# Altium footprint library pcblib1.pcblib: 9 footprints
Each footprint in its own frame and in the unit in brackets; x right, y up, seen from the top. Pads: shape width x height; smd on the part's side, far side on the other; paste and mask are expansions set on the pad; w line width, h text height; cw(c..) or ccw(c..) is an arc to the next point about the centre after c.
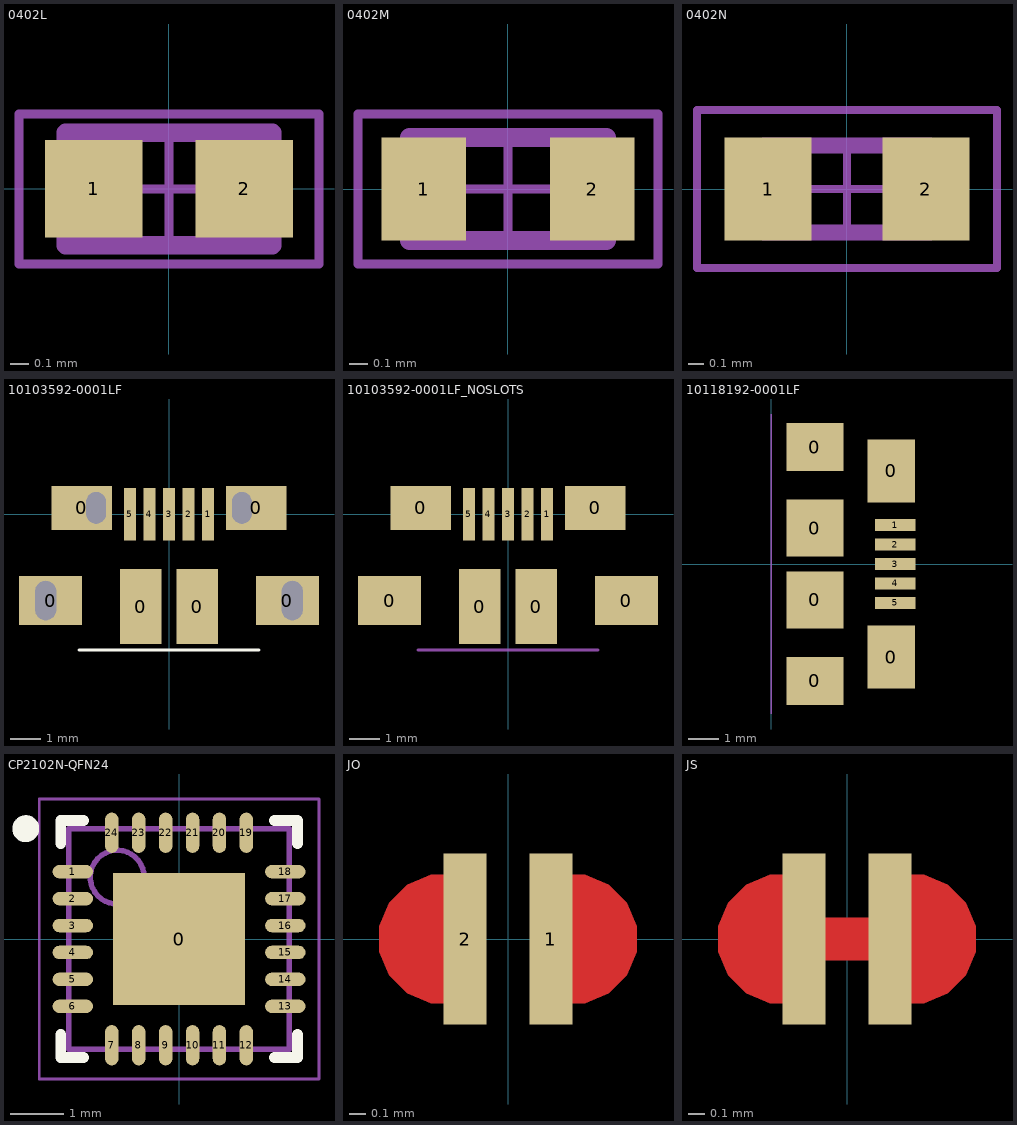
[diagram p0: the footprints below, top view; thin cyan lines are the x and y axes]

## 0402L [mm] "0402L"
height 0.6
pads (2):
  rect 0.52x0.52 smd: 1(-0.4,0) 2(0.4,0)
Mechanical 13:
  lines w0.1: -0.55,-0.3 -0.55,0.3 0.55,0.3 0.55,-0.3 -0.55,-0.3
Mechanical 15:
  lines w0.05: -0.3,0 0.3,0 ; 0,-0.3 0,0.3 ; -0.8,-0.4 -0.8,0.4 0.8,0.4 0.8,-0.4 -0.8,-0.4
3D body: height 0.6, standoff 0, extent -0.3,-0.3 0.3,0.3
3D body: height 0.6, standoff 0, extent -0.55,-0.3 -0.3,0.3
3D body: height 0.6, standoff 0, extent 0.3,-0.3 0.55,0.3

## 0402M [mm] "0402M"
height 0.4
pads (2):
  rect 0.45x0.55 smd: 1(-0.45,0) 2(0.45,0)
Mechanical 13:
  lines w0.1: -0.525,-0.275 0.525,-0.275 0.525,0.275 -0.525,0.275 -0.525,-0.275
Mechanical 15:
  lines w0.05: -0.275,0 0.275,0 ; 0,-0.275 0,0.275 ; -0.8,-0.4 0.8,-0.4 0.8,0.4 -0.8,0.4 -0.8,-0.4
3D body: height 0.4, standoff 0, extent 0.3,-0.275 0.525,0.275
3D body: height 0.4, standoff 0, extent -0.3,-0.275 0.3,0.275
3D body: height 0.4, standoff 0, extent -0.525,-0.275 -0.3,0.275

## 0402N [mm] "0402N"
height 0.4
pads (2):
  rect 0.55x0.65 smd: 1(-0.5,0) 2(0.5,0)
Mechanical 13:
  lines w0.1: -0.525,-0.275 -0.525,0.275 0.525,0.275 0.525,-0.275 -0.525,-0.275
Mechanical 15:
  lines w0.05: -0.275,0 0.275,0 ; 0,-0.275 0,0.275 ; -0.95,-0.5 -0.95,0.5 0.95,0.5 0.95,-0.5 -0.95,-0.5
3D body: height 0.4, standoff 0, extent 0.3,-0.275 0.525,0.275
3D body: height 0.4, standoff 0, extent -0.3,-0.275 0.3,0.275
3D body: height 0.4, standoff 0, extent -0.525,-0.275 -0.3,0.275

## 10103592-0001LF [mm] "micro B USB 2.0 Receptacle Connector 5 Position Surface Mount, Right Angle, Horizontal Rev"
height 3
pads (15):
  round 0 hole 0.7 slot 1.3 at 90 deg: 0(-4.1,-2.875) 0(4.1,-2.875)
  rect 2.1x1.625 smd: 0(-3.938,-2.875) 0(3.938,-2.875)
  rect 2x1.46 smd: 0(-2.9,0.205) 0(2.9,0.205)
  round 0 hole 0.65 slot 1.05 at 90 deg: 0(-2.425,0.205) 0(2.425,0.205)
  rect 1.375x2.5 smd: 0(-0.937,-3.075) 0(0.937,-3.075)
  rect 0.4x1.75 smd: 1(1.3,0) 2(0.65,0) 3(0,0) 4(-0.65,0) 5(-1.3,0)
Top Overlay:
  lines w0.1: -3,-4.525 3,-4.525

## 10103592-0001LF_NOSLOTS [mm] "micro B USB 2.0 Receptacle Connector 5 Position Surface Mount, Right Angle, Horizontal Rev"
height 3
pads (11):
  rect 2.1x1.625 smd: 0(-3.938,-2.875) 0(3.938,-2.875)
  rect 2x1.46 smd: 0(-2.9,0.205) 0(2.9,0.205)
  rect 1.375x2.5 smd: 0(-0.937,-3.075) 0(0.937,-3.075)
  rect 0.4x1.75 smd: 1(1.3,0) 2(0.65,0) 3(0,0) 4(-0.65,0) 5(-1.3,0)
Mechanical 1:
  lines w0.1: -3,-4.525 3,-4.525
  lines w0.127: -4.1,-2.525 -4.1,-2.275 -4.1,-2.875 ; -3.8,-2.875 -4.45,-2.875 -4.1,-2.875 ; -2.695,0.205 -2.425,0.205 ; -2.425,-0.05 -2.425,0.205 ; -2.425,0.65 -2.425,0.205 ; -2.15,0.2 -2.42,0.2 -2.425,0.205 ; 2.15,0.21 2.42,0.21 ; 2.42,-0.045 2.42,0.21 ; 2.42,0.655 2.42,0.21 ; 2.695,0.205 2.425,0.205 2.42,0.21 ; 4.1,-2.525 4.1,-2.275 4.1,-2.875 ; 4.4,-2.875 3.75,-2.875 4.1,-2.875 ; -4.1,-2.875 -4.1,-3.5 -4.1,-2.875 ; -2.425,0.205 -2.425,-0.275 -2.425,0.205 ; 2.42,0.21 2.42,-0.27 2.42,0.21 ; 4.1,-2.875 4.1,-3.5 4.1,-2.875

## 10118192-0001LF [mm] "MICRO USB B RA RECP"
height 1.8
pads (11):
  rect 1.9x1.6 smd: 0(1.45,-3.9) 0(1.45,3.9)
  rect 1.9x1.9 smd: 0(1.45,-1.2) 0(1.45,1.2)
  rect 1.6x2.1 smd: 0(4,-3.1) 0(4,3.1)
  rect 1.35x0.4 smd: 1(4.125,1.3) 2(4.125,0.65) 3(4.125,0) 4(4.125,-0.65) 5(4.125,-1.3)
Mechanical 1:
  lines w0.05: 0,-5 0,5
3D body "10118192C.stp": height 3.09, standoff 0.08, extent -1.016,-3.956 4.645,3.956

## CP2102N-QFN24 [mm] "QFN, 24-Leads, Body 4.00x4.00mm, Pitch 0.50mm, Thermal Pad 2.45x2.45mm, IPC Medium Density"
height 0.8
pads (25):
  rect 2.45x2.45 smd: 0(0,0)
  oval 0.75x0.25 smd: 1(-1.975,1.25) 2(-1.975,0.75) 3(-1.975,0.25) 4(-1.975,-0.25) 5(-1.975,-0.75) 6(-1.975,-1.25) 13(1.975,-1.25) 14(1.975,-0.75) 15(1.975,-0.25) 16(1.975,0.25) 17(1.975,0.75) 18(1.975,1.25)
  oval 0.25x0.75 smd: 7(-1.25,-1.975) 8(-0.75,-1.975) 9(-0.25,-1.975) 10(0.25,-1.975) 11(0.75,-1.975) 12(1.25,-1.975) 19(1.25,1.975) 20(0.75,1.975) 21(0.25,1.975) 22(-0.25,1.975) 23(-0.75,1.975) 24(-1.25,1.975)
Top Overlay:
  circle w0.25: c-2.85,2.05 r0.125
  lines w0.2: -2.2,-1.775 -2.2,-2.2 -1.775,-2.2 ; -2.2,1.775 -2.2,2.2 -1.775,2.2 ; 1.775,-2.2 2.2,-2.2 2.2,-1.775 ; 1.775,2.2 2.2,2.2 2.2,1.775
Mechanical 13:
  circle w0.1: c-1.15,1.15 r0.5
  lines w0.1: -2.05,-2.05 2.05,-2.05 2.05,2.05 -2.05,2.05 -2.05,-2.05
Mechanical 15:
  lines w0.05: -2.6,-2.6 2.6,-2.6 2.6,2.6 -2.6,2.6 -2.6,-2.6
  lines w0.1: -0.5,0 0.5,0 ; 0,-0.5 0,0.5
3D body: height 0.8, standoff 0.01, extent -2.05,-2.05 2.05,2.05

## JO [mil] "Open Jumper"
pads (2):
  rect 10x40 smd: 1(10,0) 2(-10,0)
Top Layer:
  region: -10,15 -15,15 -17.98,15 -23.5,12.72 -27.72,8.5 -30,2.98 -30,0 -30,-2.98 -27.72,-8.5 -23.5,-12.72 -17.98,-15 -15,-15 -10,-15
  region: 10,-15 15,-15 17.98,-15 23.5,-12.72 27.72,-8.5 30,-2.98 30,0 30,2.98 27.72,8.5 23.5,12.72 17.98,15 15,15 10,15
Top Solder:
  region: -5,20 -5,-20 -15,-20 -18.98,-20 -26.33,-16.96 -31.96,-11.33 -35,-3.98 -35,0 -35,3.98 -31.96,11.33 -26.33,16.96 -18.98,20 -15,20
  region: 5,-20 5,20 15,20 18.98,20 26.33,16.96 31.96,11.33 35,3.98 35,0 35,-3.98 31.96,-11.33 26.33,-16.96 18.98,-20 15,-20

## JS [mil] "Shorted Jumper"
pads (2):
  rect 10x40 smd: ""(-10,0) ""(10,0)
Top Layer:
  region: -10,15 -15,15 -17.98,15 -23.5,12.72 -27.72,8.5 -30,2.98 -30,0 -30,-2.98 -27.72,-8.5 -23.5,-12.72 -17.98,-15 -15,-15 -10,-15
  region: 10,-15 15,-15 17.98,-15 23.5,-12.72 27.72,-8.5 30,-2.98 30,0 30,2.98 27.72,8.5 23.5,12.72 17.98,15 15,15 10,15
  lines w10: -20,0 10,0
Top Solder:
  region: -5,20 -5,-20 -15,-20 -18.98,-20 -26.33,-16.96 -31.96,-11.33 -35,-3.98 -35,0 -35,3.98 -31.96,11.33 -26.33,16.96 -18.98,20 -15,20
  region: 5,-20 5,20 15,20 18.98,20 26.33,16.96 31.96,11.33 35,3.98 35,0 35,-3.98 31.96,-11.33 26.33,-16.96 18.98,-20 15,-20
  lines w10: -5,0 5,0